# Altium footprint library CUI Connectors.PcbLib: 2 footprints
Each footprint in its own frame and in the unit in brackets; x right, y up, seen from the top. Pads: shape width x height; smd on the part's side, far side on the other; paste and mask are expansions set on the pad; w line width, h text height; cw(c..) or ccw(c..) is an arc to the next point about the centre after c.
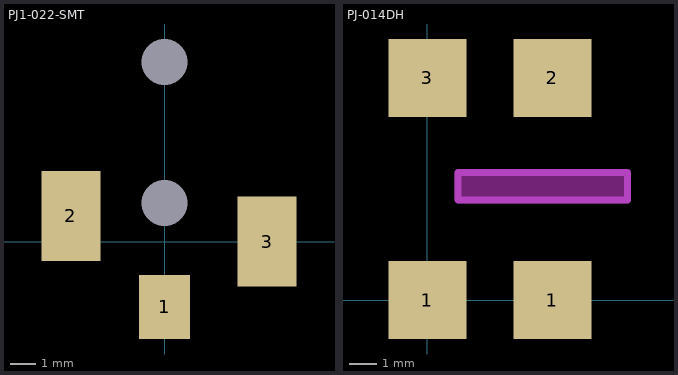
[diagram p0: the footprints below, top view; thin cyan lines are the x and y axes]

## PJ1-022-SMT [mm] "0.65/2.80mm right-angle surface mount power jack"
pads (5):
  rect 2x2.5 smd: 1(0,-2.55)
  rect 2.3x3.5 smd: 2(-3.65,1) 3(4,0)
  rect 0x0 hole 1.8 unplated: 9(0,7) 10(0,1.5)
3D body: height 5, standoff -0.8, extent -4.1,-2.55 4.1,9.95

## PJ-014DH [mm]
height 5.2
pads (4):
  rect 2.8x2.8 smd: 1(0,0) 1(4.5,0) 2(4.5,8) 3(0,8)
Keep-Out Layer:
  board cut-out: 1.1,3.6 7.2,3.6 7.2,4.6 1.1,4.6
Mechanical 1 keep-out:
  lines w0.254: 1.1,3.6 7.2,3.6 7.2,4.6 1.1,4.6 1.1,3.6
3D body: height 5.2, standoff 0, extent -1.4,1.3 7.7,6.8